# Altium footprint library Power_Switch_ICs.PcbLib: 8 footprints
Each footprint in its own frame and in the unit in brackets; x right, y up, seen from the top. Pads: shape width x height; smd on the part's side, far side on the other; paste and mask are expansions set on the pad; w line width, h text height; cw(c..) or ccw(c..) is an arc to the next point about the centre after c.
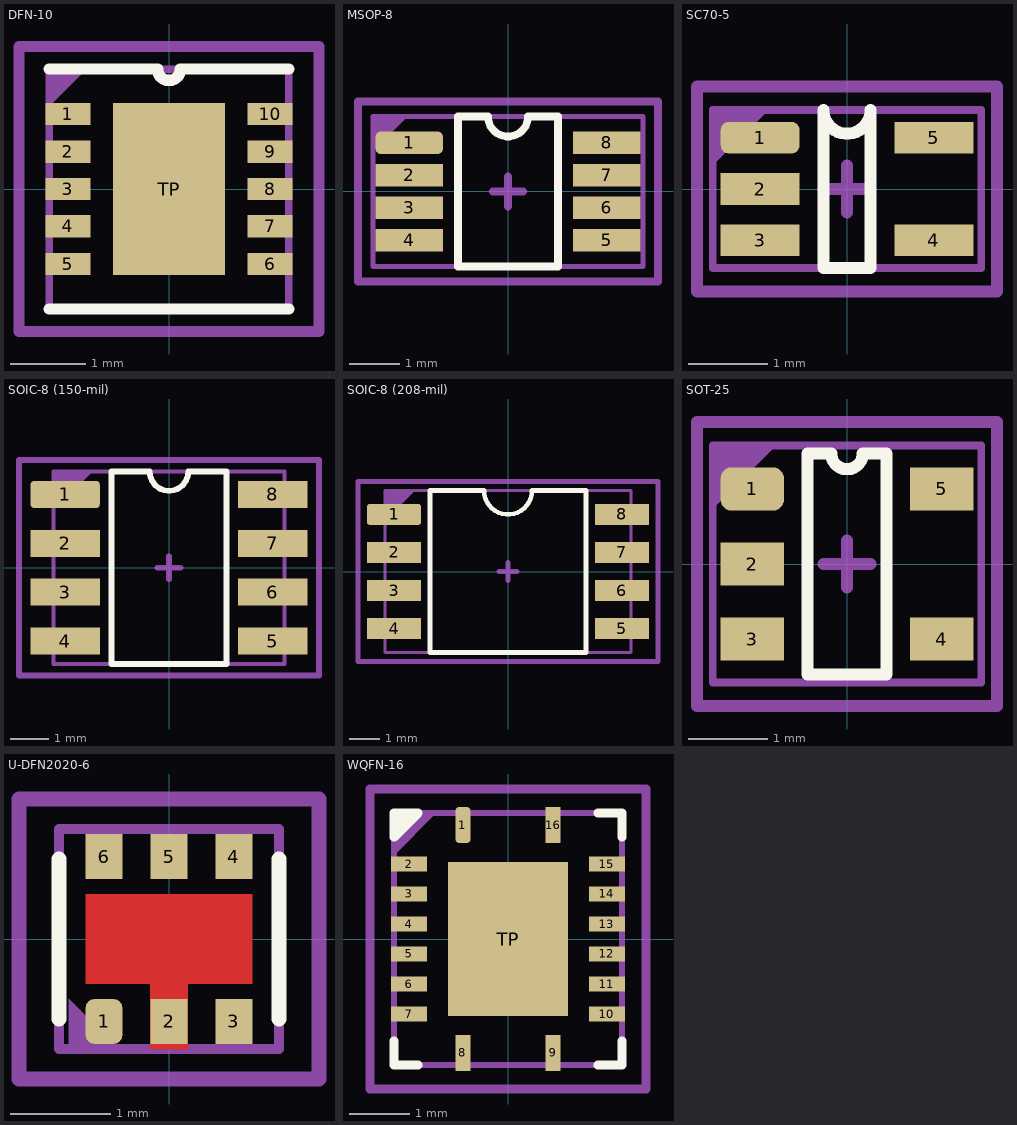
[diagram p0: the footprints below, top view; thin cyan lines are the x and y axes]

## DFN-10 [mm]
pads (11):
  rect 0.6x0.3 smd: 1(-1.35,1) 2(-1.35,0.5) 3(-1.35,0) 4(-1.35,-0.5) 5(-1.35,-1) 6(1.35,-1) 7(1.35,-0.5) 8(1.35,0) 9(1.35,0.5) 10(1.35,1)
  rect 1.5x2.3 smd: TP(0,0)
Top Overlay:
  lines w0.153: -1.6,-1.6 1.6,-1.6 ; -1.6,1.6 -0.153,1.6 ccw(c0,1.6) 0.153,1.6 1.6,1.6
Top Assembly:
  region: -1.6,1.6 -1.6,1.1 -1.1,1.6
  lines w0.1: -1.6,-1.6 -1.6,1.6 1.6,1.6 1.6,-1.6 -1.6,-1.6
  text "'.Designator'" at -4.532,-0.333 h0.8
Top Courtyard:
  lines w0.153: -0.3,0 0.3,0 ; 0,-0.3 0,0.3 ; -2,-1.9 -2,1.9 2,1.9 2,-1.9 -2,-1.9
3D body "User Library-My-DFN-10-3x3-0_5.STEP": height 0.8, standoff 0, extent -1.56,-1.55 1.56,1.55

## MSOP-8 [mm]
pads (8):
  rrect50% 1.35x0.45 smd mask+0.05: 1(-1.975,0.975)
  rect 1.35x0.45 smd mask+0.05: 2(-1.975,0.325) 3(-1.975,-0.325) 4(-1.975,-0.975) 5(1.975,-0.975) 6(1.975,-0.325) 7(1.975,0.325) 8(1.975,0.975)
Top Overlay:
  lines w0.153: -1,-1.5 -1,1.5 -0.4,1.5 ccw(c0,1.5) 0.4,1.5 1,1.5 1,-1.5 -1,-1.5
Top Assembly:
  region: -2.7,1.5 -2.7,0.8 -2,1.5
  lines w0.1: -2.7,-1.5 -2.7,1.5 2.7,1.5 2.7,-1.5 -2.7,-1.5
  text "'.Designator'" at -4.532,-0.333 h0.8
Top Courtyard:
  lines w0.153: -0.3,0 0.3,0 ; 0,-0.3 0,0.3 ; -3,-1.8 -3,1.8 3,1.8 3,-1.8 -3,-1.8
3D body "MSOP-8.stp": height 1.07, standoff -0.03, extent -2.45,-1.506 2.45,1.494

## SC70-5 [mm]
pads (5):
  rrect50% 1x0.4 smd: 1(-1.1,0.65)
  rect 1x0.4 smd: 2(-1.1,0) 3(-1.1,-0.65) 4(1.1,-0.65) 5(1.1,0.65)
Top Overlay:
  lines w0.153: -0.3,-1 0.3,-1 0.3,1 cw(c0,1) -0.3,1 -0.3,-1
Top Assembly:
  region: -1.7,1 -1.7,0.3 -1,1
  lines w0.1: -1.7,-1 1.7,-1 1.7,1 -1.7,1 -1.7,-1
  text "'.Designator'" at -4.532,-0.333 h0.8
Top Courtyard:
  lines w0.153: -0.3,0 0.3,0 ; 0,-0.3 0,0.3 ; -1.9,-1.3 1.9,-1.3 1.9,1.3 -1.9,1.3 -1.9,-1.3
3D body "User Library-SC70-5-1.step": height 0.95, standoff 0, extent -1.05,-1 1.05,1

## SOIC-8 (150-mil) [mm]
pads (8):
  rrect25% 1.8x0.7 smd: 1(-2.7,1.905)
  rect 1.8x0.7 smd: 2(-2.7,0.635) 3(-2.7,-0.635) 4(-2.7,-1.905) 5(2.7,-1.905) 6(2.7,-0.635) 7(2.7,0.635) 8(2.7,1.905)
Top Overlay:
  lines w0.153: -1.5,-2.5 -1.5,2.5 -0.5,2.5 ccw(c0,2.5) 0.5,2.5 1.5,2.5 1.5,-2.5 -1.5,-2.5
Top Assembly:
  region: -3,2.5 -3,1.5 -2,2.5
  lines w0.1: -3,-2.5 3,-2.5 3,2.5 -3,2.5 -3,-2.5
  text "'.Designator'" at -4.532,-0.333 h0.8
Top Courtyard:
  lines w0.153: -0.3,0 0.3,0 ; 0,-0.3 0,0.3 ; -3.9,-2.8 -3.9,2.8 3.9,2.8 3.9,-2.8 -3.9,-2.8
3D body "so8-3.step": height 1.7, standoff 0, extent -3,-2.45 3,2.45

## SOIC-8 (208-mil) [mm]
pads (8):
  rrect25% 1.8x0.7 smd: 1(-3.8,1.905)
  rect 1.8x0.7 smd: 2(-3.8,0.635) 3(-3.8,-0.635) 4(-3.8,-1.905) 5(3.8,-1.905) 6(3.8,-0.635) 7(3.8,0.635) 8(3.8,1.905)
Top Overlay:
  lines w0.153: -2.6,-2.7 2.6,-2.7 2.6,2.7 0.8,2.7 cw(c0,2.7) -0.8,2.7 -2.6,2.7 -2.6,-2.7
Top Assembly:
  region: -4.1,2.7 -4.1,1.7 -3.1,2.7
  lines w0.1: -4.1,-2.7 4.1,-2.7 4.1,2.7 -4.1,2.7 -4.1,-2.7
  text "'.Designator'" at -4.532,-0.333 h0.8
Top Courtyard:
  lines w0.153: -0.3,0 0.3,0 ; 0,-0.3 0,0.3 ; -5,-3 -5,3 5,3 5,-3 -5,-3
3D body "User Library-SOIC-8-208.STEP": height 2.15, standoff 0, extent -4.1,-2.7 4.1,2.7

## SOT-25 [mm]
pads (5):
  rrect50% 0.8x0.55 smd mask+0.05: 1(-1.2,0.95)
  rect 0.8x0.55 smd mask+0.05: 2(-1.2,0) 3(-1.2,-0.95) 4(1.2,-0.95) 5(1.2,0.95)
Top Overlay:
  lines w0.153: -0.5,-1.4 -0.5,1.4 -0.2,1.4 ccw(c0,1.4) 0.2,1.4 0.5,1.4 0.5,-1.4 -0.5,-1.4
Top Assembly:
  region: -1.7,1.5 -1.7,0.7 -0.9,1.5
  lines w0.1: -1.7,-1.5 -1.7,1.5 1.7,1.5 1.7,-1.5 -1.7,-1.5
  text "'.Designator'" at -4.532,-0.333 h0.8
Top Courtyard:
  lines w0.153: -0.3,0 0.3,0 ; 0,-0.3 0,0.3 ; -1.9,-1.8 1.9,-1.8 1.9,1.8 -1.9,1.8 -1.9,-1.8
3D body "User Library-SOT-25.step": height 1.2, standoff 0, extent -1.4,-1.45 1.4,1.45

## U-DFN2020-6 [mm]
pads (6):
  rrect50% 0.37x0.45 smd mask+0.05: 1(-0.65,-0.825)
  rect 0.37x0.45 smd mask+0.05: 2(0,-0.825) 3(0.65,-0.825) 4(0.65,0.825) 5(0,0.825) 6(-0.65,0.825)
Top Layer:
  region: -0.835,0.45 0.835,0.45 0.835,-0.45 0.185,-0.45 0.185,-1.1 -0.185,-1.1 -0.185,-0.45 -0.835,-0.45
Top Overlay:
  lines w0.153: -1.1,-0.8 -1.1,0.8 ; 1.1,-0.8 1.1,0.8
Top Assembly:
  region: -1,-0.6 -0.5,-1.1 -1,-1.1
  lines w0.1: -1.1,-1.1 -1.1,1.1 1.1,1.1 1.1,-1.1 -1.1,-1.1
  text "'.Designator'" at -4.532,-0.333 h0.8
Top Courtyard:
  lines w0.153: -0.3,0 0.3,0 ; 0,-0.3 0,0.3 ; -1.5,-1.4 1.5,-1.4 1.5,1.4 -1.5,1.4 -1.5,-1.4
3D body "U-DFN2020-6.stp": height 0.6, standoff 0, extent -1,-1 1,1

## WQFN-16 [mm]
pads (17):
  rrect50% 0.25x0.6 smd: 1(-0.75,1.9)
  rect 0.6x0.25 smd: 2(-1.65,1.25) 3(-1.65,0.75) 4(-1.65,0.25) 5(-1.65,-0.25) 6(-1.65,-0.75) 7(-1.65,-1.25) 10(1.65,-1.25) 11(1.65,-0.75) 12(1.65,-0.25) 13(1.65,0.25) 14(1.65,0.75) 15(1.65,1.25)
  rect 0.25x0.6 smd: 8(-0.75,-1.9) 9(0.75,-1.9) 16(0.75,1.9)
  rect 2x2.56 smd: TP(0,0)
Top Overlay:
  region: -1.9,2.1 -1.9,1.7 -1.5,2.1
  lines w0.153: -1.9,-1.7 -1.9,-2.1 -1.5,-2.1 ; 1.5,-2.1 1.9,-2.1 1.9,-1.7 ; 1.5,2.1 1.9,2.1 1.9,1.7 ; -1.9,1.7 -1.9,2.1 -1.5,2.1 ; -1.9,1.7 -1.9,1.7 ; -1.9,1.7 -1.5,2.1 ; -1.5,2.1 -1.5,2.1
Top Assembly:
  region: -1.9,2.1 -1.9,1.4 -1.2,2.1
  lines w0.1: -1.9,-2.1 -1.9,2.1 1.9,2.1 1.9,-2.1 -1.9,-2.1
  text "'.Designator'" at -4.532,-0.333 h0.8
Top Courtyard:
  lines w0.153: -0.3,0 0.3,0 ; 0,-0.3 0,0.3 ; -2.3,-2.5 2.3,-2.5 2.3,2.5 -2.3,2.5 -2.3,-2.5
3D body "WQFN16_RRK_TEX.step": height 0.81, standoff 0, extent -1.829,-2.07 1.829,2.07